# Altium schematic symbol library CAP1206.SchLib: 1 symbol
Pins are listed as number, name and electrical type; pins without a type are passive.

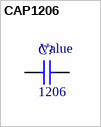
[diagram p0: symbol CAP1206]

## CAP1206
designator C?, comment 1206
1206 capacitor; Value: Value
footprint CAP1206R (capacitor 1206 reflow soldering)
simulation model CAP (Capacitor)
signal-integrity model Cap
pins: 1, 2